# EAGLE library part ESP32-EVB (library FTWearable)
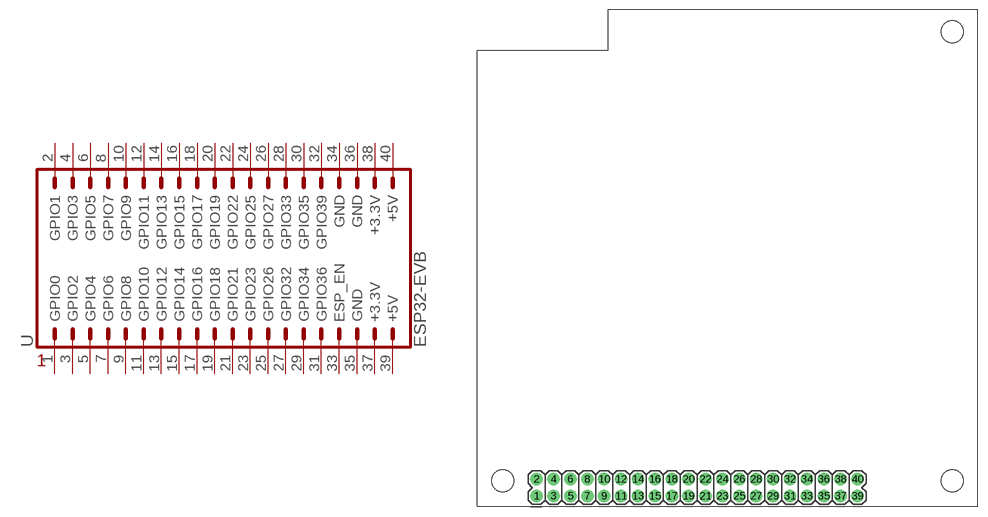
[diagram p1: symbol with the pads of ESP32-EVB; footprint ESP32-EVB]

Designator prefix U

## ESP32-EVB  [ESP32-EVB]
1  GPIO0  pas
2  GPIO1  pas
3  GPIO2  pas
4  GPIO3  pas
5  GPIO4  pas
6  GPIO5  pas
7  GPIO6  pas
8  GPIO7  pas
9  GPIO8  pas
10  GPIO9  pas
11  GPIO10  pas
12  GPIO11  pas
13  GPIO12  pas
14  GPIO13  pas
15  GPIO14  pas
16  GPIO15  pas
17  GPIO16  pas
18  GPIO17  pas
19  GPIO18  pas
20  GPIO19  pas
21  GPIO21  pas
22  GPIO22  pas
23  GPIO23  pas
24  GPIO25  pas
25  GPIO26  pas
26  GPIO27  pas
27  GPIO32  pas
28  GPIO33  pas
29  GPIO34  pas
30  GPIO35  pas
31  GPIO36  pas
32  GPIO39  pas
33  ESP_EN  pas
34  GND  pas
35  GND  pas
36  GND  pas
37  +3.3V  pas
38  +3.3V  pas
39  +5V  pas
40  +5V  pas

## Footprint ESP32-EVB (pad centres in mm)
drill 1.016 pad 1.88: 1 8.89,1.524; 2 8.89,4.064; 3 11.43,1.524; 4 11.43,4.064; 5 13.97,1.524; 6 13.97,4.064; 7 16.51,1.524; 8 16.51,4.064; 9 19.05,1.524; 10 19.05,4.064; 11 21.59,1.524; 12 21.59,4.064; 13 24.13,1.524; 14 24.13,4.064; 15 26.67,1.524; 16 26.67,4.064; 17 29.21,1.524; 18 29.21,4.064; 19 31.75,1.524; 20 31.75,4.064; 21 34.29,1.524; 22 34.29,4.064; 23 36.83,1.524; 24 36.83,4.064; 25 39.37,1.524; 26 39.37,4.064; 27 41.91,1.524; 28 41.91,4.064; 29 44.45,1.524; 30 44.45,4.064; 31 46.99,1.524; 32 46.99,4.064; 33 49.53,1.524; 34 49.53,4.064; 35 52.07,1.524; 36 52.07,4.064; 37 54.61,1.524; 38 54.61,4.064; 39 57.15,1.524; 40 57.15,4.064
hole 3.3 at 3.81,3.81
hole 3.3 at 71.374,3.81
hole 3.3 at 71.374,71.374